# Altium footprint library BM10B-GHS-TBT(LF)(SN)(N).PcbLib: 1 footprints
Each footprint in its own frame and in the unit in brackets; x right, y up, seen from the top. Pads: shape width x height; smd on the part's side, far side on the other; paste and mask are expansions set on the pad; w line width, h text height; cw(c..) or ccw(c..) is an arc to the next point about the centre after c.
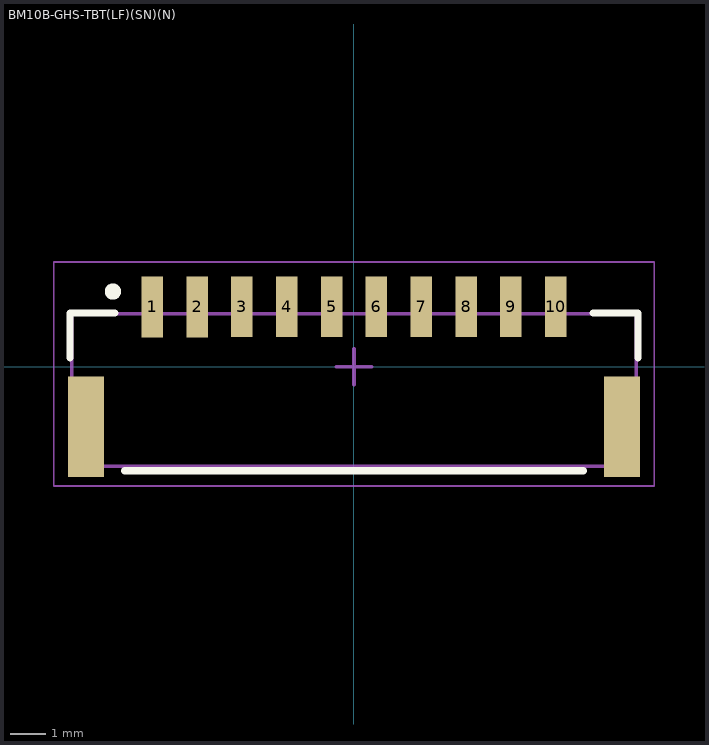
[diagram p0: the footprint, top view; thin cyan lines are the x and y axes]

## BM10B-GHS-TBT(LF)(SN)(N) [mm]
pads (12):
  rect 0.6x1.7 smd: 1(-5.625,1.675) 2(-4.375,1.675) 3(-3.125,1.675) 4(-1.875,1.675) 5(-0.625,1.675) 6(0.625,1.675) 7(1.875,1.675) 8(3.125,1.675) 9(4.375,1.675) 10(5.625,1.675)
  rect 1x2.8 smd: ""(-7.475,-1.675) ""(7.475,-1.675)
Top Overlay:
  circle w0.254: c-6.725,2.1 r0.1
  lines w0.2: -7.925,0.25 -7.925,1.5 -6.675,1.5 ; -6.4,-2.9 6.4,-2.9 ; 6.675,1.5 7.925,1.5 7.925,0.25
Mechanical 1:
  lines w0.1: -7.875,-2.775 7.875,-2.775 7.875,1.475 -7.875,1.475 -7.875,-2.775
  text ".Designator" at -3.374,-1.258 h0.65
Mechanical 2:
  lines w0.05: -8.375,-3.325 8.375,-3.325 8.375,2.925 -8.375,2.925 -8.375,-3.325
  lines w0.1: -0.5,0 0.5,0 ; 0,-0.5 0,0.5
3D body "BM10B-GHS-TBT.STEP": height 4.18, standoff -0.03, extent -7.9,-2.8 7.85,2.15